# EAGLE library part INNOCOMM-SN10-12 (library innocomm-sigfox-breakout)
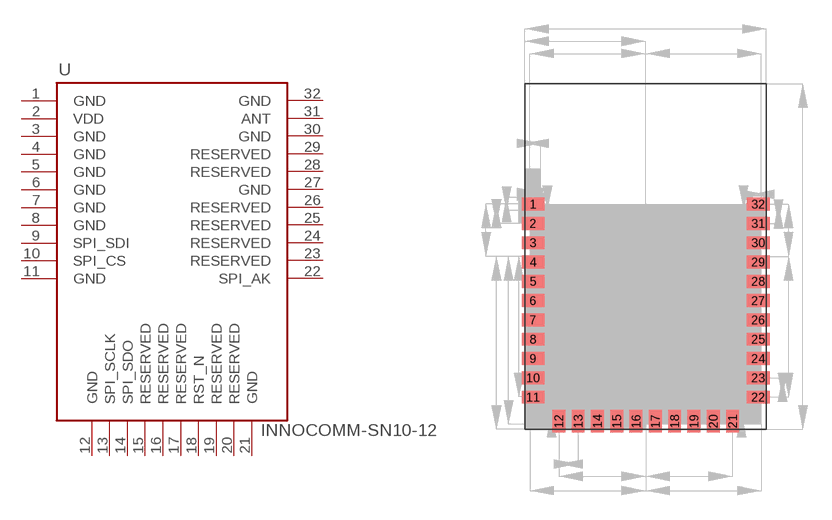
[diagram p0: symbol with the pads of INNOCOMM-SN10-12; footprint INNOCOMM-SN10-12]

Designator prefix U

## INNOCOMM-SN10-12INNOCOMM-SN10-12  [INNOCOMM-SN10-12]
1  GND  pwr
2  VDD  pwr
3  GND  pwr
4  GND  pwr
5  GND  pwr
6  GND  pwr
7  GND  pwr
8  GND  pwr
9  SPI_SDI  in
10  SPI_CS
11  GND  pwr
12  GND  pwr
13  SPI_SCLK
14  SPI_SDO  out
15  RESERVED  nc
16  RESERVED  nc
17  RESERVED  nc
18  RST_N
19  RESERVED  nc
20  RESERVED  nc
21  GND  pwr
22  SPI_AK
23  RESERVED  nc
24  RESERVED  nc
25  RESERVED  nc
26  RESERVED  nc
27  GND  pwr
28  RESERVED  nc
29  RESERVED  nc
30  GND  pwr
31  ANT
32  GND  pwr

## Footprint INNOCOMM-SN10-12 (pad centres in mm)
smd 1.4 x 0.8: 1 0.5,14; 2 0.5,12.8; 3 0.5,11.6; 4 0.5,10.4; 5 0.5,9.2; 6 0.5,8; 7 0.5,6.8; 8 0.5,5.6; 9 0.5,4.4; 10 0.5,3.2; 11 0.5,2; 22 14.5,2; 23 14.5,3.2; 24 14.5,4.4; 25 14.5,5.6; 26 14.5,6.8; 27 14.5,8; 28 14.5,9.2; 29 14.5,10.4; 30 14.5,11.6; 31 14.5,12.8; 32 14.5,14
smd 0.8 x 1.4: 12 2.1,0.5; 13 3.3,0.5; 14 4.5,0.5; 15 5.7,0.5; 16 6.9,0.5; 17 8.1,0.5; 18 9.3,0.5; 19 10.5,0.5; 20 11.7,0.5; 21 12.9,0.5